# EAGLE library part RN42 (library custom)
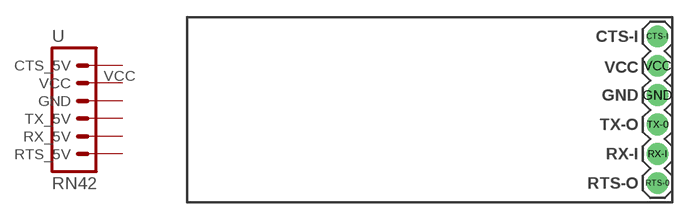
[diagram p4: symbol with the pads of RN42; footprint RN42]

Designator prefix -

## RN42  [RN42]
CTS-I  CTS_5V  pas
GND  GND  pas
RTS-0  RTS_5V  pas
RX-I  RX_5V  pas
TX-0  TX_5V  pas
VCC  VCC  pas

## Footprint RN42 (pad centres in mm)
drill 1.016 pad 1.88: CTS-I 0,6.35; GND 0,1.27; RTS-0 0,-6.35; RX-I 0,-3.81; TX-0 0,-1.27; VCC 0,3.81